# EAGLE library part NANO (library arduino)
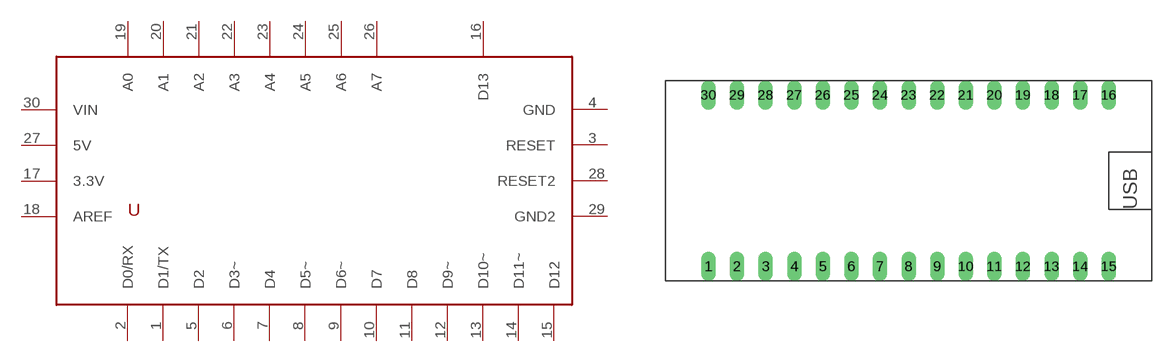
[diagram p1: symbol with the pads of NANO; footprint NANO]

Designator prefix -

## NANO  [NANO]
1  D1/TX
2  D0/RX
3  RESET
4  GND
5  D2
6  D3~
7  D4
8  D5~
9  D6~
10  D7
11  D8
12  D9~
13  D10~
14  D11~
15  D12
16  D13
17  3.3V
18  AREF
19  A0
20  A1
21  A2
22  A3
23  A4
24  A5
25  A6
26  A7
27  5V
28  RESET2
29  GND2
30  VIN

## Footprint NANO (pad centres in mm)
Arduino en su version nano, ATmega328, 8 entradas analogicas, miniusb, 6 salidas PWM
drill 0.8 long: 1 -7.62,-8.89; 2 -5.08,-8.89; 3 -2.54,-8.89; 4 0,-8.89; 5 2.54,-8.89; 6 5.08,-8.89; 7 7.62,-8.89; 8 10.16,-8.89; 9 12.7,-8.89; 10 15.24,-8.89; 11 17.78,-8.89; 12 20.32,-8.89; 13 22.86,-8.89; 14 25.4,-8.89; 15 27.94,-8.89; 16 27.94,6.35; 17 25.4,6.35; 18 22.86,6.35; 19 20.32,6.35; 20 17.78,6.35; 21 15.24,6.35; 22 12.7,6.35; 23 10.16,6.35; 24 7.62,6.35; 25 5.08,6.35; 26 2.54,6.35; 27 0,6.35; 28 -2.54,6.35; 29 -5.08,6.35; 30 -7.62,6.35